# EAGLE library part BOARDSIDE_16BIT_RIGHT (library GadgetFactory_Pub)
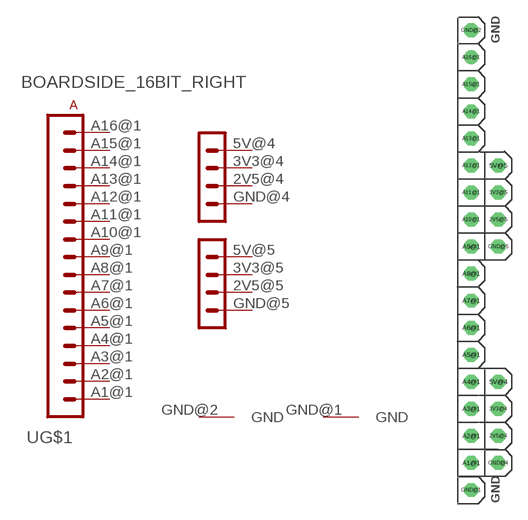
[diagram p0: symbol with the pads of BOARDSIDE_16BIT_RIGHT; footprint BOARDSIDE_16BIT_RIGHT]

Designator prefix -; gates G$1=COCOON_16BIT_RIGHT G$2=WING_POWER G$3=WING_POWER G$4=GND G$5=GND

## BOARDSIDE_16BIT_RIGHT  [BOARDSIDE_16BIT_RIGHT]
2V5@4  G$2:2V5  pas
2V5@5  G$3:2V5  pas
3V3@4  G$2:3V3  pas
3V3@5  G$3:3V3  pas
5V@4  G$2:5V  pas
5V@5  G$3:5V  pas
A1@1  G$1:A1  pas
A2@1  G$1:A2  pas
A3@1  G$1:A3  pas
A4@1  G$1:A4  pas
A5@1  G$1:A5  pas
A6@1  G$1:A6  pas
A7@1  G$1:A7  pas
A8@1  G$1:A8  pas
A9@1  G$1:A9  pas
A10@1  G$1:A10  pas
A11@1  G$1:A11  pas
A12@1  G$1:A12  pas
A13@1  G$1:A13  pas
A14@1  G$1:A14  pas
A15@1  G$1:A15  pas
A16@1  G$1:A16  pas
GND@1  G$4:GND
GND@2  G$5:GND
GND@4  G$2:GND  pas
GND@5  G$3:GND  pas

## Footprint BOARDSIDE_16BIT_RIGHT (pad centres in mm)
drill 0.8 octagon: 2V5@4 3.81,-16.51; 2V5@5 3.81,3.81; 3V3@4 3.81,-13.97; 3V3@5 3.81,6.35; 5V@4 3.81,-11.43; 5V@5 3.81,8.89; A1@1 1.27,-19.05; A2@1 1.27,-16.51; A3@1 1.27,-13.97; A4@1 1.27,-11.43; A5@1 1.27,-8.89; A6@1 1.27,-6.35; A7@1 1.27,-3.81; A8@1 1.27,-1.27; A9@1 1.27,1.27; A10@1 1.27,3.81; A11@1 1.27,6.35; A12@1 1.27,8.89; A13@1 1.27,11.43; A14@1 1.27,13.97; A15@1 1.27,16.51; GND@1 1.27,-21.59; GND@2 1.27,21.59; GND@4 3.81,-19.05; GND@5 3.81,1.27
drill 0.8 round: A16@1 1.27,19.05